# Altium schematic symbol library LED.SchLib: 6 symbols
Pins are listed as number, name and electrical type; pins without a type are passive.

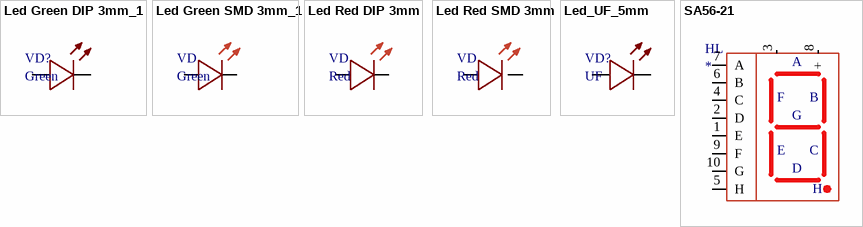
[diagram p0: symbols Led Green DIP 3mm_1 to SA56-21]

## Led Green DIP 3mm_1
designator VD?, comment Green
Green Led; Color: Green
footprint Led 3mm Green
footprint FYLS-1206
pins: A, K

## Led Green SMD 3mm_1
designator VD, comment Green
FYLS-1206 SMD Green Led; Color: Green
footprint FYLS-1206
pins: A, K

## Led Red DIP 3mm
designator VD, comment Red
Red Led; Color: Red
footprint Led 3mm Red
pins: A, K

## Led Red SMD 3mm
designator VD, comment Red
FYLS-1206 SMD Red Led; Color: Red
footprint FYLS-1206
pins: A, K

## Led_UF_5mm
designator VD?, comment UF
Color: Green
footprint Led 5mm UF
pins: A, K

## SA56-21
designator HL
footprint SA56-21
pins: 1 E, 2 D, 3 nc, 4 C, 5 H, 6 B, 7 A, 8 +, 9 F, 10 G